# Altium footprint library 集成接线头.PcbLib: 105 footprints (part 7 of 7)
Each footprint in its own frame and in the unit in brackets; x right, y up, seen from the top. Pads: shape width x height; smd on the part's side, far side on the other; paste and mask are expansions set on the pad; w line width, h text height; cw(c..) or ccw(c..) is an arc to the next point about the centre after c.
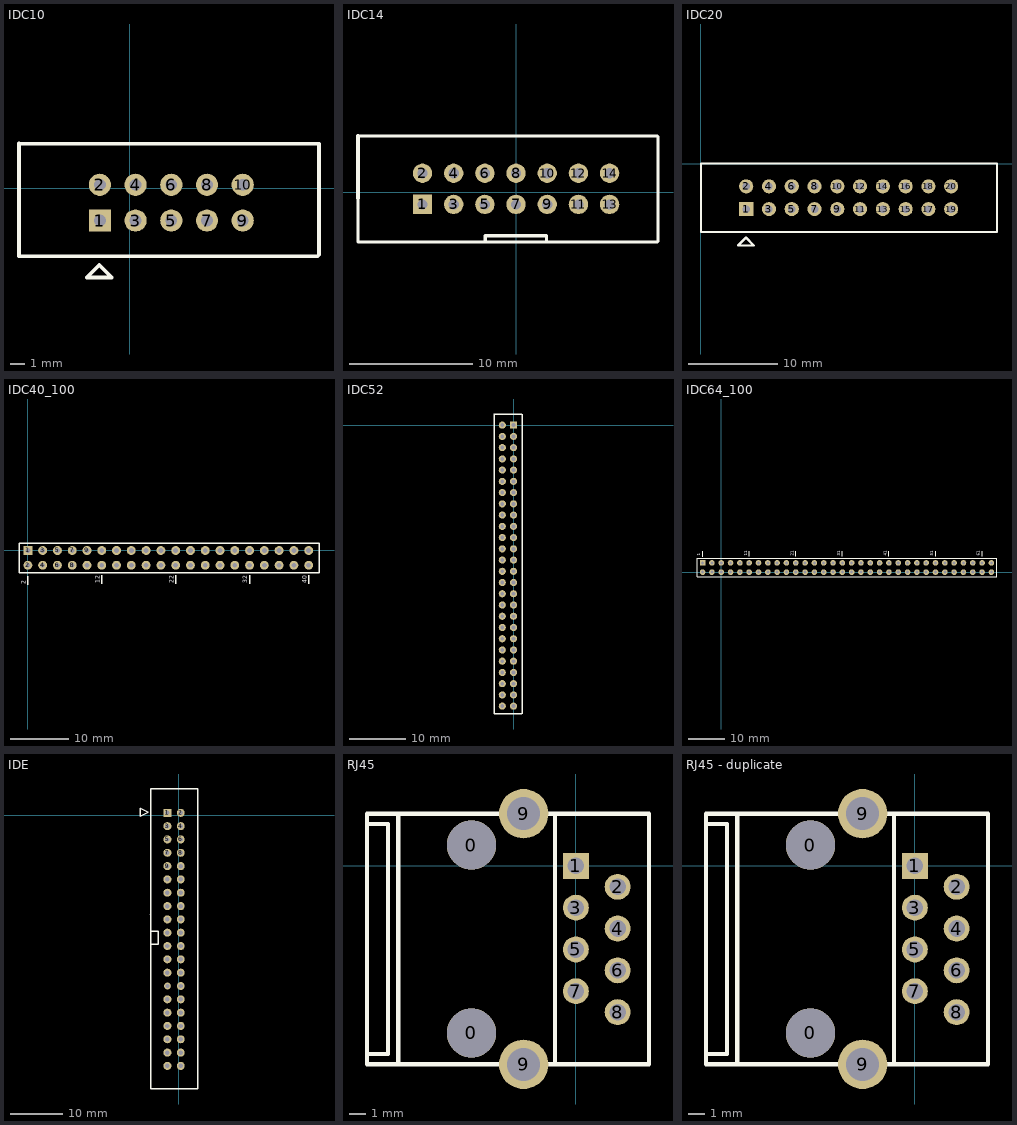
[diagram p6: the footprints below, top view; thin cyan lines are the x and y axes]

## IDC10 [mil]
pads (10):
  rect 62x62 hole 33: 1(-83.6,-90.47)
  round 62 hole 33: 2(-83.6,9.53) 3(16.4,-90.47) 4(16.4,9.53) 5(116.4,-90.47) 6(116.4,9.53) 7(216.4,-90.47) 8(216.4,9.53) 9(316.4,-90.47) 10(316.4,9.53)
Top Overlay:
  lines w10: -310,-189.96 526.38,-189.96 ; -310,125 530,125 530,-186.34 ; -120,-250 -50,-250 -85,-215 -120,-250
  lines w12: -310,-189.96 -310,125

## IDC14 [mil]
pads (14):
  rect 62x62 hole 33: 1(-300.22,-39.37)
  round 62 hole 33: 2(-300.22,60.63) 3(-200.22,-39.37) 4(-200.22,60.63) 5(-100.22,-39.37) 6(-100.22,60.63) 7(-0.22,-39.37) 8(-0.22,60.63) 9(99.78,-39.37) 10(99.78,60.63) 11(199.78,-39.37) 12(199.78,60.63) 13(299.78,-39.37) 14(299.78,60.63)
Top Overlay:
  lines w10: -507,-20 -507,-160 -348,-160 453,-160 455,-158 455,178 453,180 -507,180 ; -99,-160 -99,-140 98,-140 98,-160
  lines w12: -507,-20 -507,180

## IDC20 [mil]
pads (20):
  rect 62x62 hole 33: 1(198.84,-199.72)
  round 62 hole 33: 2(198.84,-99.72) 3(298.84,-199.72) 4(298.84,-99.72) 5(398.84,-199.72) 6(398.84,-99.72) 7(498.84,-199.72) 8(498.84,-99.72) 9(598.84,-199.72) 10(598.84,-99.72) 11(698.84,-199.72) 12(698.84,-99.72) 13(798.84,-199.72) 14(798.84,-99.72) 15(898.84,-199.72) 16(898.84,-99.72) 17(998.84,-199.72) 18(998.84,-99.72) 19(1098.84,-199.72) 20(1098.84,-99.72)
Top Overlay:
  lines w10: 0,-300 1300,-300 1300,0 0,0 0,-300 ; 162.44,-359.25 197.44,-324.25 232.44,-359.25 162.44,-359.25

## IDC40_100 [mil]
pads (40):
  rect 60x60 hole 33: 1(0,0)
  round 60 hole 33: 2(0,-100) 3(100,0) 4(100,-100) 5(200,0) 6(200,-100) 7(300,0) 8(300,-100) 9(400,0) 10(400,-100) 11(500,0) 12(500,-100) 13(600,0) 14(600,-100) 15(700,0) 16(700,-100) 17(800,0) 18(800,-100) 19(900,0) 20(900,-100) 21(1000,0) 22(1000,-100) 23(1100,0) 24(1100,-100) 25(1200,0) 26(1200,-100) 27(1300,0) 28(1300,-100) 29(1400,0) 30(1400,-100) 31(1500,0) 32(1500,-100) 33(1600,0) 34(1600,-100) 35(1700,0) 36(1700,-100) 37(1800,0) 38(1800,-100) 39(1900,0) 40(1900,-100)
Top Overlay:
  lines w10: 0,-233 0,-175 ; 500,-226 500,-168 ; 1000,-226 1000,-168 ; 1500,-226 1500,-168 ; 1900,-226 1900,-168 ; -60,-150 1970,-150 1970,50 -60,50 -60,-150
  text "40" at 1886,-222 h30
  text "32" at 1486,-222 h30
  text "22" at 986,-222 h30
  text "12" at 486,-222 h30
  text "2" at -14,-229 h30

## IDC52 [mil]
pads (52):
  rect 50x50 hole 27: 1(-0.22,0.47)
  round 50 hole 27: 2(-78.96,0.47) 3(-0.22,-78.28) 4(-78.96,-78.28) 5(-0.22,-157.02) 6(-78.96,-157.02) 7(-0.22,-235.76) 8(-78.96,-235.76) 9(-0.22,-314.5) 10(-78.96,-314.5) 11(-0.22,-393.24) 12(-78.96,-393.24) 13(-0.22,-471.98) 14(-78.96,-471.98) 15(-0.22,-550.72) 16(-78.96,-550.72) 17(-0.31,-629.82) 18(-79.06,-629.82) 19(-0.31,-708.56) 20(-79.05,-708.56) 21(-0.31,-787.3) 22(-79.05,-787.3) 23(-0.31,-866.04) 24(-79.05,-866.04) 25(-0.31,-944.78) 26(-79.05,-944.78) 27(-0.31,-1023.52) 28(-79.05,-1023.52) 29(-0.31,-1102.26) 30(-79.05,-1102.26) 31(-0.31,-1181) 32(-79.05,-1181) 33(-0.31,-1259.74) 34(-79.05,-1259.74) 35(-0.31,-1338.48) 36(-79.05,-1338.48) 37(-0.31,-1417.22) 38(-79.05,-1417.22) 39(-0.31,-1495.96) 40(-79.05,-1495.96) 41(-0.31,-1574.7) 42(-79.05,-1574.7) 43(-0.31,-1653.44) 44(-79.05,-1653.44) 45(-0.31,-1732.18) 46(-79.05,-1732.18) 47(-0.31,-1810.92) 48(-79.05,-1810.92) 49(-0.31,-1889.66) 50(-79.05,-1889.66) 51(-0.31,-1968.4) 52(-79.05,-1968.4)
Top Overlay:
  lines w10: -136.81,36.6 -135.31,35.1 -135.31,-2023.4 58.94,-2023.4 ; -135.31,19.68 -135.31,76.26 -137.8,78.74 58.7,78.74 ; 59.69,-2023.4 59.69,36.6 ; 59.69,19.68 59.69,77.76

## IDC64_100 [mil]
pads (64):
  rect 60x60 hole 33: 1(-200,100)
  round 60 hole 33: 2(-200,0) 3(-100,100) 4(-100,0) 5(0,100) 6(0,0) 7(100,100) 8(100,0) 9(200,100) 10(200,0) 11(300,100) 12(300,0) 13(400,100) 14(400,0) 15(500,100) 16(500,0) 17(600,100) 18(600,0) 19(700,100) 20(700,0) 21(800,100) 22(800,0) 23(900,100) 24(900,0) 25(1000,100) 26(1000,0) 27(1100,100) 28(1100,0) 29(1200,100) 30(1200,0) 31(1300,100) 32(1300,0) 33(1400,100) 34(1400,0) 35(1500,100) 36(1500,0) 37(1600,100) 38(1600,0) 39(1700,100) 40(1700,0) 41(1800,100) 42(1800,0) 43(1900,100) 44(1900,0) 45(2000,100) 46(2000,0) 47(2100,100) 48(2100,0) 49(2200,100) 50(2200,0) 51(2300,100) 52(2300,0) 53(2400,100) 54(2400,0) 55(2500,100) 56(2500,0) 57(2600,100) 58(2600,0) 59(2700,100) 60(2700,0) 61(2800,100) 62(2800,0) 63(2900,100) 64(2900,0)
Top Overlay:
  lines w10: -200,168 -200,223 ; 300,171 300,226 ; 800,171 800,226 ; 1300,171 1300,226 ; 1800,171 1800,226 ; 2300,171 2300,226 ; 2800,171 2800,226 ; -260,-50 -260,150 2960,150 2960,-50 -260,-50
  text "1" at -223,175 h30
  text "11" at 277,178 h30
  text "21" at 777,178 h30
  text "31" at 1277,178 h30
  text "41" at 1777,178 h30
  text "51" at 2277,178 h30
  text "61" at 2777,178 h30

## IDE [mil]
pads (40):
  rect 60x60 hole 33: 1(-86.18,17.24)
  round 60 hole 33: 2(13.82,17.24) 3(-86.18,-82.76) 4(13.82,-82.76) 5(-86.18,-182.76) 6(13.82,-182.76) 7(-86.18,-282.76) 8(13.82,-282.76) 9(-86.18,-382.76) 10(13.82,-382.76) 11(-86.18,-482.76) 12(13.82,-482.76) 13(-86.18,-582.76) 14(13.82,-582.76) 15(-86.18,-682.76) 16(13.82,-682.76) 17(-86.18,-782.76) 18(13.82,-782.76) 19(-86.18,-882.76) 20(13.82,-882.76) 21(-86.18,-982.76) 22(13.82,-982.76) 23(-86.18,-1082.76) 24(13.82,-1082.76) 25(-86.18,-1182.76) 26(13.82,-1182.76) 28(13.82,-1282.76) 29(-86.18,-1382.76) 30(13.82,-1382.76) 31(-86.18,-1482.76) 32(13.82,-1482.76) 33(-86.18,-1582.76) 34(13.82,-1582.76) 35(-86.18,-1682.76) 36(13.82,-1682.76) 37(-86.18,-1782.76) 38(13.82,-1782.76) 39(-86.18,-1882.76) 40(13.82,-1882.76)
  round 51.18 hole 27.56: 27(-86.18,-1282.76)
Top Overlay:
  lines w10: -215.63,-870 -155,-870 -155,-970 -213.27,-970 ; -213.74,-746.53 -211.38,-744.17 ; -290.96,-8.5 -230.96,21.5 -290.96,51.5 -290.96,-8.5 ; -212.16,-2055.98 -212.16,195.98 142.16,195.98 142.16,-2055.98 -212.16,-2055.98

## RJ45 [mil]
pads (12):
  round 118.11 hole 118.11: 0(-250,-400) 0(-250,50)
  rect 62x62 hole 40: 1(0,0)
  round 62 hole 40: 2(100,-50) 3(0,-100) 4(100,-150) 5(0,-200) 6(100,-250) 7(0,-300) 8(100,-350)
  round 118.11 hole 78.74: 9(-125,-475) 9(-125,125)
Top Overlay:
  lines w10: -500,-450 -450,-450 -450,100 -500,100 ; -425,-475 -425,125 ; -50,-475 -50,125 ; -500,-475 175,-475 175,125 -500,125 -500,-475

## RJ45 - duplicate [mil]
pads (12):
  round 118.11 hole 118.11: 0(-250,-400) 0(-250,50)
  rect 62x62 hole 40: 1(0,0)
  round 62 hole 40: 2(100,-50) 3(0,-100) 4(100,-150) 5(0,-200) 6(100,-250) 7(0,-300) 8(100,-350)
  round 118.11 hole 78.74: 9(-125,-475) 9(-125,125)
Top Overlay:
  lines w10: -500,-450 -450,-450 -450,100 -500,100 ; -425,-475 -425,125 ; -50,-475 -50,125 ; -500,-475 175,-475 175,125 -500,125 -500,-475